# Altium schematic symbol library GPIO.SchLib: 30 symbols
Pins are listed as number, name and electrical type; pins without a type are passive.

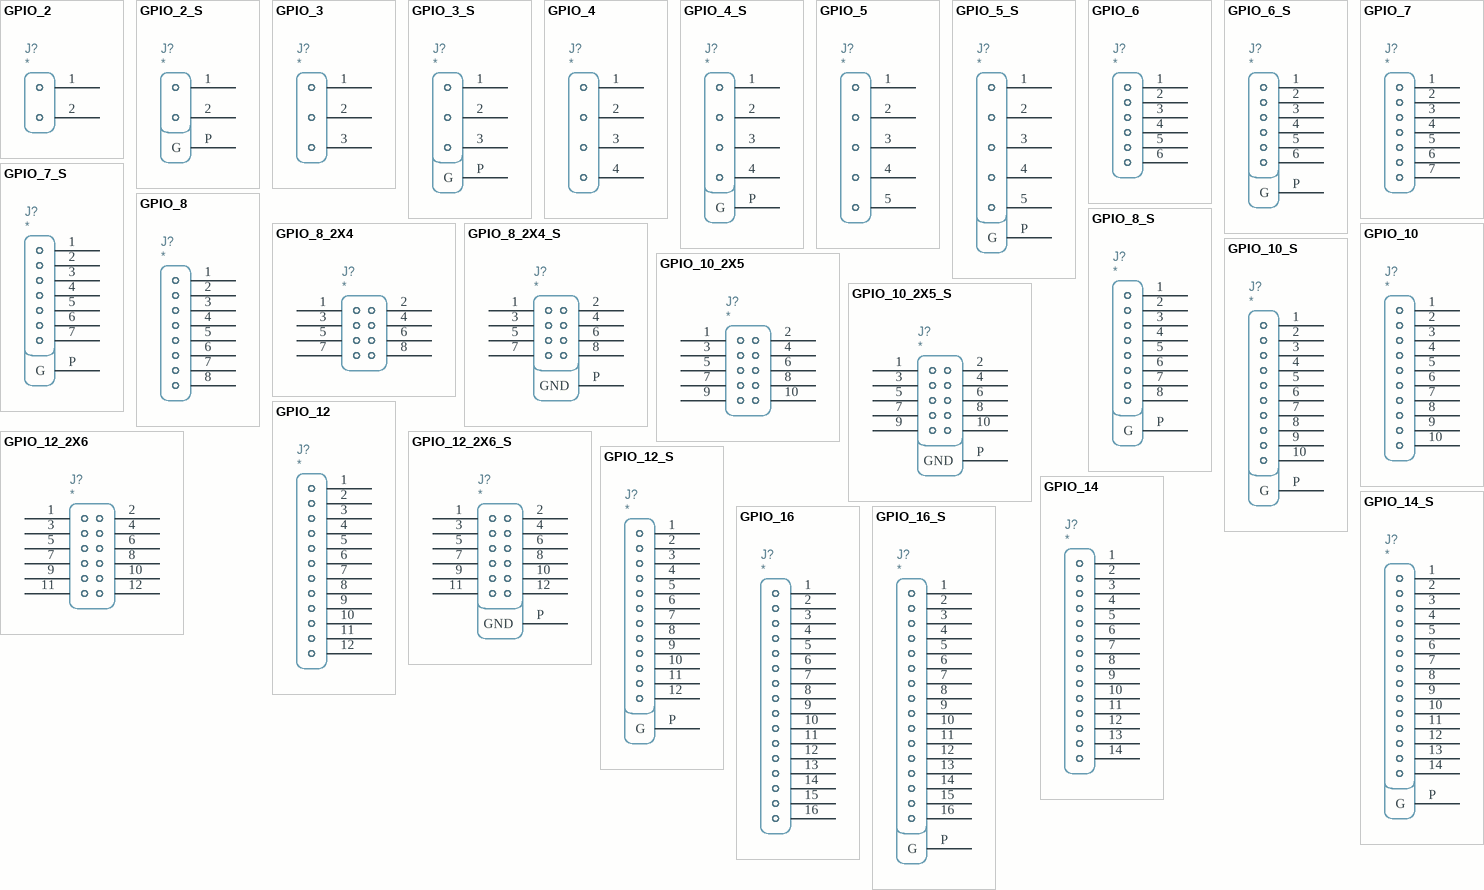
[diagram p0: symbols GPIO_2 to GPIO_16_S]

## GPIO_2
designator J?
pins: 1 IO1, 2 IO2

## GPIO_2_S
designator J?
pins: 1 IO1, 2 IO2, P G

## GPIO_3
designator J?
pins: 1 IO1, 2 IO2, 3 IO3

## GPIO_3_S
designator J?
pins: 1 IO1, 2 IO2, 3 IO3, P G

## GPIO_4
designator J?
pins: 1 IO1, 2 IO2, 3 IO3, 4 IO4

## GPIO_4_S
designator J?
pins: 1 IO1, 2 IO2, 3 IO3, 4 IO4, P G

## GPIO_5
designator J?
pins: 1 IO1, 2 IO2, 3 IO3, 4 IO4, 5 IO5

## GPIO_5_S
designator J?
pins: 1 IO1, 2 IO2, 3 IO3, 4 IO4, 5 IO5, P G

## GPIO_6
designator J?
pins: 1 IO1, 2 IO2, 3 IO3, 4 IO4, 5 IO5, 6 IO6

## GPIO_6_S
designator J?
pins: 1 IO1, 2 IO2, 3 IO3, 4 IO4, 5 IO5, 6 IO6, P G

## GPIO_7
designator J?
pins: 1 IO1, 2 IO2, 3 IO3, 4 IO4, 5 IO5, 6 IO6, 7 IO7

## GPIO_7_S
designator J?
pins: 1 IO1, 2 IO2, 3 IO3, 4 IO4, 5 IO5, 6 IO6, 7 IO7, P G

## GPIO_8
designator J?
pins: 1 IO1, 2 IO2, 3 IO3, 4 IO4, 5 IO5, 6 IO6, 7 IO7, 8 IO8

## GPIO_8_2X4
designator J?
pins: 1 IO1, 2 IO2, 3 IO3, 4 IO4, 5 IO5, 6 IO6, 7 IO7, 8 IO8

## GPIO_8_2X4_S
designator J?
pins: 1 IO1, 2 IO2, 3 IO3, 4 IO4, 5 IO5, 6 IO6, 7 IO7, 8 IO8, P GND

## GPIO_8_S
designator J?
pins: 1 IO1, 2 IO2, 3 IO3, 4 IO4, 5 IO5, 6 IO6, 7 IO7, 8 IO8, P G

## GPIO_10
designator J?
pins: 1 IO1, 2 IO2, 3 IO3, 4 IO4, 5 IO5, 6 IO6, 7 IO7, 8 IO8, 9 IO9, 10 IO10

## GPIO_10_2X5
designator J?
pins: 1 IO1, 2 IO2, 3 IO3, 4 IO4, 5 IO5, 6 IO6, 7 IO7, 8 IO8, 9 IO9, 10 IO10

## GPIO_10_2X5_S
designator J?
pins: 1 IO1, 2 IO2, 3 IO3, 4 IO4, 5 IO5, 6 IO6, 7 IO7, 8 IO8, 9 IO9, 10 IO10, P GND

## GPIO_10_S
designator J?
pins: 1 IO1, 2 IO2, 3 IO3, 4 IO4, 5 IO5, 6 IO6, 7 IO7, 8 IO8, 9 IO9, 10 IO10, P G

## GPIO_12
designator J?
pins: 1 IO1, 2 IO2, 3 IO3, 4 IO4, 5 IO5, 6 IO6, 7 IO7, 8 IO8, 9 IO9, 10 IO10, 11 IO11, 12 IO12

## GPIO_12_2X6
designator J?
pins: 1 IO1, 2 IO2, 3 IO3, 4 IO4, 5 IO5, 6 IO6, 7 IO7, 8 IO8, 9 IO9, 10 IO10, 11 IO11, 12 IO12

## GPIO_12_2X6_S
designator J?
pins: 1 IO1, 2 IO2, 3 IO3, 4 IO4, 5 IO5, 6 IO6, 7 IO7, 8 IO8, 9 IO9, 10 IO10, 11 IO11, 12 IO12, P GND

## GPIO_12_S
designator J?
pins: 1 IO1, 2 IO2, 3 IO3, 4 IO4, 5 IO5, 6 IO6, 7 IO7, 8 IO8, 9 IO9, 10 IO10, 11 IO11, 12 IO12, P G

## GPIO_14
designator J?
pins: 1 IO1, 2 IO2, 3 IO3, 4 IO4, 5 IO5, 6 IO6, 7 IO7, 8 IO8, 9 IO9, 10 IO10, 11 IO11, 12 IO12, 13 IO13, 14 IO14

## GPIO_14_S
designator J?
pins: 1 IO1, 2 IO2, 3 IO3, 4 IO4, 5 IO5, 6 IO6, 7 IO7, 8 IO8, 9 IO9, 10 IO10, 11 IO11, 12 IO12, 13 IO13, 14 IO14, P G

## GPIO_16
designator J?
pins: 1 IO1, 2 IO2, 3 IO3, 4 IO4, 5 IO5, 6 IO6, 7 IO7, 8 IO8, 9 IO9, 10 IO10, 11 IO11, 12 IO12, 13 IO13, 14 IO14, 15 IO15, 16 IO16

## GPIO_16_S
designator J?
pins: 1 IO1, 2 IO2, 3 IO3, 4 IO4, 5 IO5, 6 IO6, 7 IO7, 8 IO8, 9 IO9, 10 IO10, 11 IO11, 12 IO12, 13 IO13, 14 IO14, 15 IO15, 16 IO16, P G

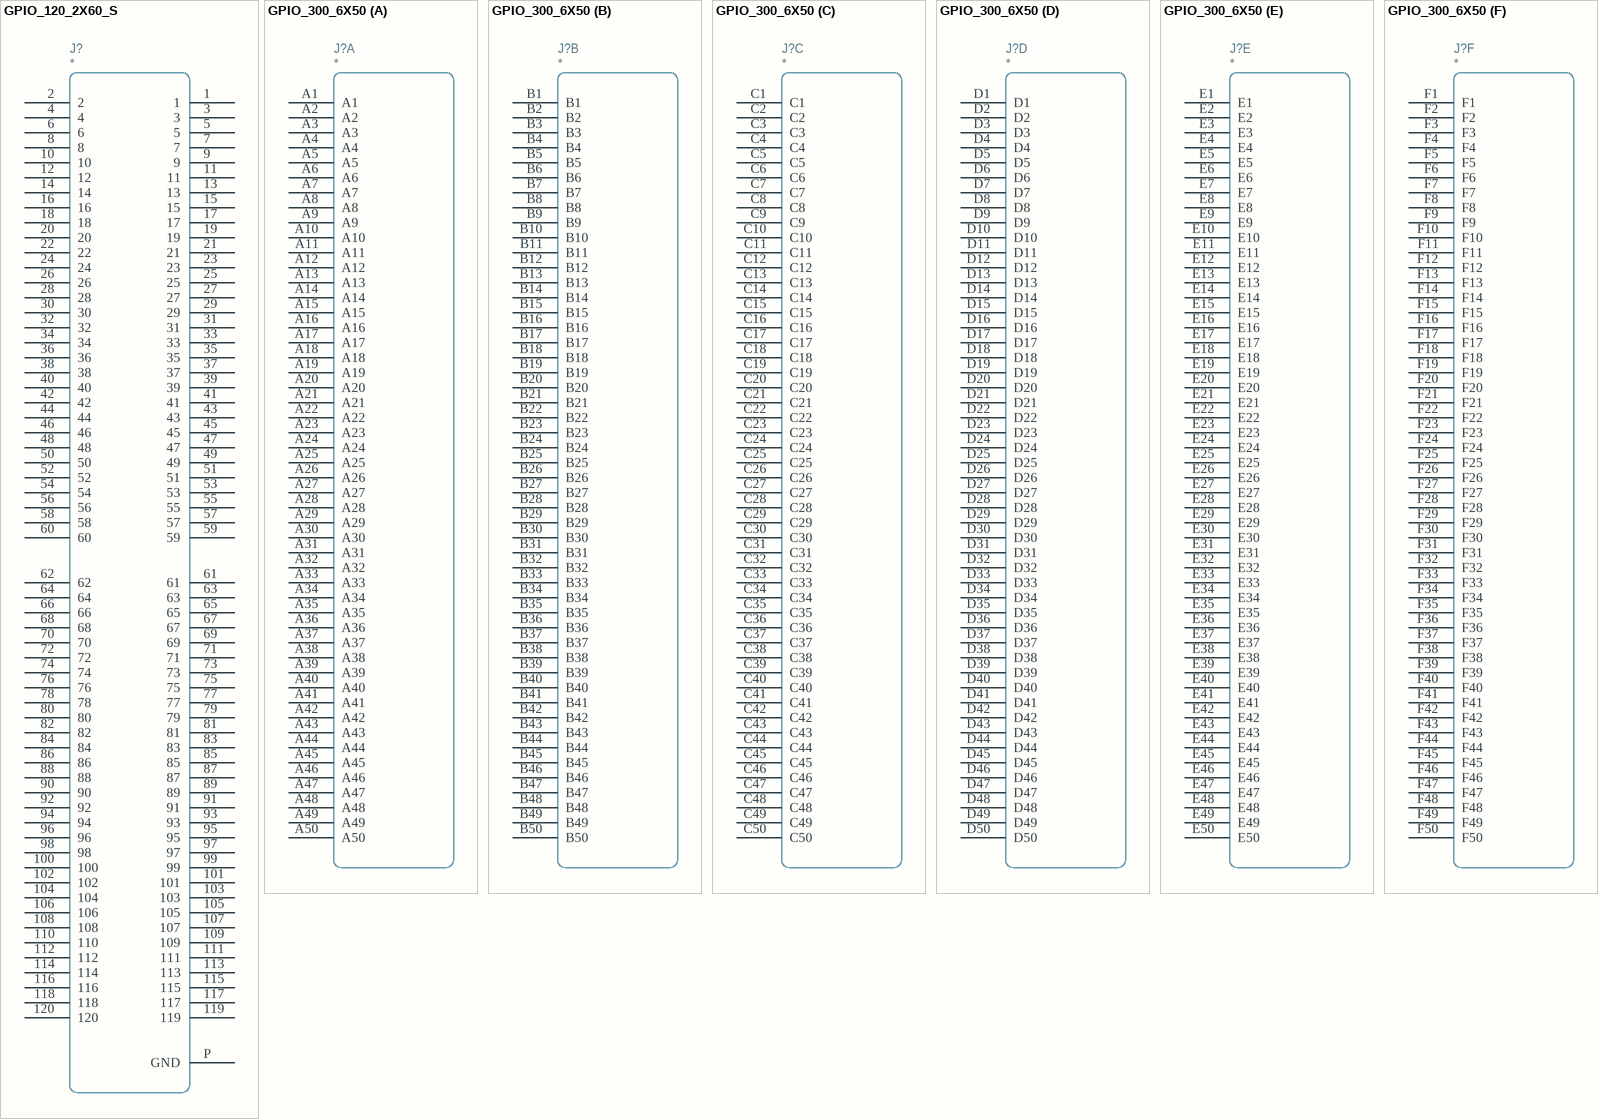
[diagram p1: symbols GPIO_120_2X60_S to GPIO_300_6X50]

## GPIO_120_2X60_S
designator J?
pins: 1, 2, 3, 4, 5, 6, 7, 8, 9, 10, 11, 12, 13, 14, 15, 16, 17, 18, 19, 20, 21, 22, 23, 24, 25, 26, 27, 28, 29, 30, 31, 32, 33, 34, 35, 36, 37, 38, 39, 40, 41, 42, 43, 44, 45, 46, 47, 48, 49, 50, 51, 52, 53, 54, 55, 56, 57, 58, 59, 60, 61, 62, 63, 64, 65, 66, 67, 68, 69, 70, 71, 72, 73, 74, 75, 76, 77, 78, 79, 80, 81, 82, 83, 84, 85, 86, 87, 88, 89, 90, 91, 92, 93, 94, 95, 96, 97, 98, 99, 100, 101, 102, 103, 104, 105, 106, 107, 108, 109, 110, 111, 112, 113, 114, 115, 116, 117, 118, 119, 120, P GND

## GPIO_300_6X50
designator J?
footprint SEAF-50-05.0-L-06-2-A-K-TR
part A pins: A1, A2, A3, A4, A5, A6, A7, A8, A9, A10, A11, A12, A13, A14, A15, A16, A17, A18, A19, A20, A21, A22, A23, A24, A25, A26, A27, A28, A29, A30, A31, A32, A33, A34, A35, A36, A37, A38, A39, A40, A41, A42, A43, A44, A45, A46, A47, A48, A49, A50
part B pins: B1, B2, B3, B4, B5, B6, B7, B8, B9, B10, B11, B12, B13, B14, B15, B16, B17, B18, B19, B20, B21, B22, B23, B24, B25, B26, B27, B28, B29, B30, B31, B32, B33, B34, B35, B36, B37, B38, B39, B40, B41, B42, B43, B44, B45, B46, B47, B48, B49, B50
part C pins: C1, C2, C3, C4, C5, C6, C7, C8, C9, C10, C11, C12, C13, C14, C15, C16, C17, C18, C19, C20, C21, C22, C23, C24, C25, C26, C27, C28, C29, C30, C31, C32, C33, C34, C35, C36, C37, C38, C39, C40, C41, C42, C43, C44, C45, C46, C47, C48, C49, C50
part D pins: D1, D2, D3, D4, D5, D6, D7, D8, D9, D10, D11, D12, D13, D14, D15, D16, D17, D18, D19, D20, D21, D22, D23, D24, D25, D26, D27, D28, D29, D30, D31, D32, D33, D34, D35, D36, D37, D38, D39, D40, D41, D42, D43, D44, D45, D46, D47, D48, D49, D50
part E pins: E1, E2, E3, E4, E5, E6, E7, E8, E9, E10, E11, E12, E13, E14, E15, E16, E17, E18, E19, E20, E21, E22, E23, E24, E25, E26, E27, E28, E29, E30, E31, E32, E33, E34, E35, E36, E37, E38, E39, E40, E41, E42, E43, E44, E45, E46, E47, E48, E49, E50
part F pins: F1, F2, F3, F4, F5, F6, F7, F8, F9, F10, F11, F12, F13, F14, F15, F16, F17, F18, F19, F20, F21, F22, F23, F24, F25, F26, F27, F28, F29, F30, F31, F32, F33, F34, F35, F36, F37, F38, F39, F40, F41, F42, F43, F44, F45, F46, F47, F48, F49, F50